# EAGLE library part CD4072B (library misc)
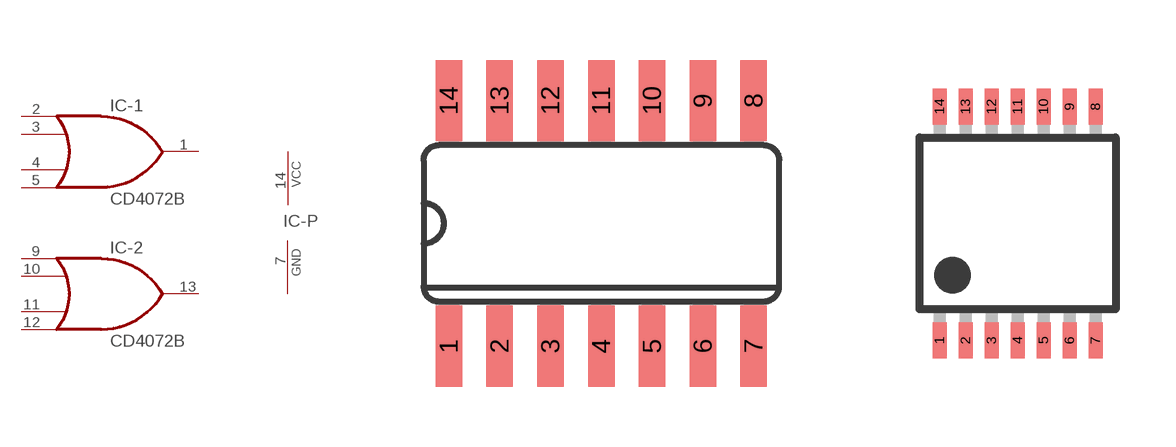
[diagram p9: symbol with the pads of SO14; footprints SO14, TSSOP14]

Designator prefix IC; gates -P=PWRN -1=4-OR -2=4-OR

## CD4072B-SO14  [SO14]
1  -1:O  out
2  -1:I0  in
3  -1:I1  in
4  -1:I2  in
5  -1:I3  in
7  -P:GND  pwr
9  -2:I0  in
10  -2:I1  in
11  -2:I2  in
12  -2:I3  in
13  -2:O  out
14  -P:VCC  pwr

## CD4072B-TSSOP14  [TSSOP14]
Pads as for SO14

## Footprint SO14 (pad centres in mm)
Small Outline package 150 mil
smd 0.66 x 2.032: 1 -3.81,-3.073; 2 -2.54,-3.073; 3 -1.27,-3.073; 4 0,-3.073; 5 1.27,-3.073; 6 2.54,-3.073; 7 3.81,-3.073; 8 3.81,3.073; 9 2.54,3.073; 10 1.27,3.073; 11 0,3.073; 12 -1.27,3.073; 13 -2.54,3.073; 14 -3.81,3.073

## Footprint TSSOP14 (pad centres in mm)
plastic thin shrink small outline package; 14 leads; body width 4.4 mm SOT402-1 Source: http://www.nxp.com/documents/data_sheet/74ABT125.pdf
smd 0.35 x 0.9: 1 -1.95,-2.925; 2 -1.3,-2.925; 3 -0.65,-2.925; 4 0,-2.925; 5 0.65,-2.925; 6 1.3,-2.925; 7 1.95,-2.925; 8 1.95,2.925; 9 1.3,2.925; 10 0.65,2.925; 11 0,2.925; 12 -0.65,2.925; 13 -1.3,2.925; 14 -1.95,2.925